# EAGLE library part OLIMEX_CONNECTORS_DB15 (library A13-OLinuXino_WIFI_Rev_G)
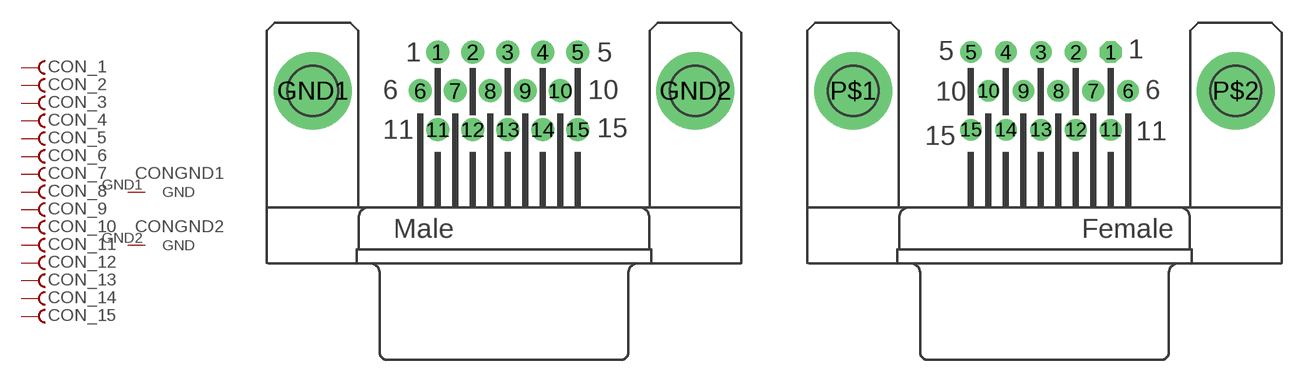
[diagram p1: symbol with the pads of OLIMEX_CONNECTORS_DB15-MALE; footprints OLIMEX_CONNECTORS_DB15-MALE, OLIMEX_CONNECTORS_DB15-FEMALE]

Designator prefix CON; gates GND1=OLIMEX_CONNECTORS_GND GND2=OLIMEX_CONNECTORS_GND _1=OLIMEX_CONNECTORS_PIN_1 _2=OLIMEX_CONNECTORS_PIN_1 _3=OLIMEX_CONNECTORS_PIN_1 _4=OLIMEX_CONNECTORS_PIN_1 _5=OLIMEX_CONNECTORS_PIN_1 _6=OLIMEX_CONNECTORS_PIN_1 _7=OLIMEX_CONNECTORS_PIN_1 _8=OLIMEX_CONNECTORS_PIN_1 _9=OLIMEX_CONNECTORS_PIN_1 _10=OLIMEX_CONNECTORS_PIN_1 _11=OLIMEX_CONNECTORS_PIN_1 _12=OLIMEX_CONNECTORS_PIN_1 _13=OLIMEX_CONNECTORS_PIN_1 _14=OLIMEX_CONNECTORS_PIN_1 _15=OLIMEX_CONNECTORS_PIN_1

## OLIMEX_CONNECTORS_DB15  [OLIMEX_CONNECTORS_DB15-MALE]
1  _1:F  in
2  _2:F  in
3  _3:F  in
4  _4:F  in
5  _5:F  in
6  _6:F  in
7  _7:F  in
8  _8:F  in
9  _9:F  in
10  _10:F  in
11  _11:F  in
12  _12:F  in
13  _13:F  in
14  _14:F  in
15  _15:F  in
GND1  GND1:GND  pwr
GND2  GND2:GND  pwr

## OLIMEX_CONNECTORS_DB152  [OLIMEX_CONNECTORS_DB15-FEMALE]
1  _1:F  in
2  _2:F  in
3  _3:F  in
4  _4:F  in
5  _5:F  in
6  _6:F  in
7  _7:F  in
8  _8:F  in
9  _9:F  in
10  _10:F  in
11  _11:F  in
12  _12:F  in
13  _13:F  in
14  _14:F  in
15  _15:F  in
P$1  GND1:GND  pwr
P$2  GND2:GND  pwr

## OLIMEX_CONNECTORS_DB1522  [OLIMEX_CONNECTORS_DB15-F_22MM]
Pads as for OLIMEX_CONNECTORS_DB15-MALE

## Footprint OLIMEX_CONNECTORS_DB15-MALE (pad centres in mm)
drill 1: 1 -4.329,6.35; 2 -2.043,6.35; 3 0.243,6.35; 4 2.529,6.35; 5 4.815,6.35; 6 -5.472,3.81; 7 -3.186,3.81; 8 -0.9,3.81; 9 1.386,3.81; 10 3.672,3.81; 11 -4.329,1.27; 12 -2.043,1.27; 13 0.243,1.27; 14 2.529,1.27; 15 4.815,1.27
drill 3.302 pad 5.08: GND1 -12.497,3.81; GND2 12.497,3.81

## Footprint OLIMEX_CONNECTORS_DB15-FEMALE (pad centres in mm)
drill 0.9 octagon: 1 4.329,6.35
drill 0.9: 2 2.043,6.35; 3 -0.243,6.35; 4 -2.529,6.35; 5 -4.815,6.35; 6 5.472,3.81; 7 3.186,3.81; 8 0.9,3.81; 9 -1.386,3.81; 10 -3.672,3.81; 11 4.329,1.27; 12 2.043,1.27; 13 -0.243,1.27; 14 -2.529,1.27; 15 -4.815,1.27
drill 3.302 pad 5.08: P$1 -12.497,3.81; P$2 12.497,3.81

## Footprint OLIMEX_CONNECTORS_DB15-F_22MM (pad centres in mm)
drill 0.9 octagon: 1 4.329,6.35
drill 0.9: 2 2.043,6.35; 3 -0.243,6.35; 4 -2.529,6.35; 5 -4.815,6.35; 6 5.472,3.81; 7 3.186,3.81; 8 0.9,3.81; 9 -1.386,3.81; 10 -3.672,3.81; 11 4.329,1.27; 12 2.043,1.27; 13 -0.243,1.27; 14 -2.529,1.27; 15 -4.815,1.27
drill 3.302 pad 5.08: GND1 -12.497,3.81; GND2 12.497,3.81